# Altium schematic symbol library con-phoenix-508.SCHLIB: 96 symbols
Pins are listed as number, name and electrical type; pins without a type are passive.

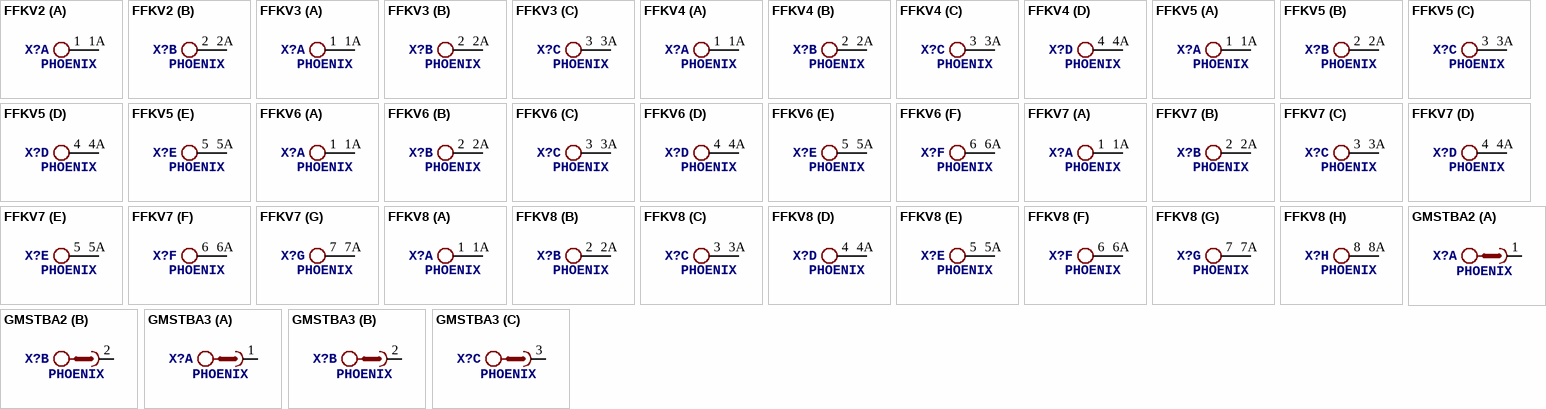
[diagram p0: symbols FFKV2 to GMSTBA3]

## FFKV2
designator X?, comment PHOENIX
footprint FFKV2
part A pins: 1, 1A 2
part B pins: 2 1, 2A 2

## FFKV3
designator X?, comment PHOENIX
footprint FFKV3
part A pins: 1, 1A 2
part B pins: 2 1, 2A 2
part C pins: 3 1, 3A 2

## FFKV4
designator X?, comment PHOENIX
footprint FFKV4
part A pins: 1, 1A 2
part B pins: 2 1, 2A 2
part C pins: 3 1, 3A 2
part D pins: 4 1, 4A 2

## FFKV5
designator X?, comment PHOENIX
footprint FFKV5
part A pins: 1, 1A 2
part B pins: 2 1, 2A 2
part C pins: 3 1, 3A 2
part D pins: 4 1, 4A 2
part E pins: 5 1, 5A 2

## FFKV6
designator X?, comment PHOENIX
footprint FFKV6
part A pins: 1, 1A 2
part B pins: 2 1, 2A 2
part C pins: 3 1, 3A 2
part D pins: 4 1, 4A 2
part E pins: 5 1, 5A 2
part F pins: 6 1, 6A 2

## FFKV7
designator X?, comment PHOENIX
footprint FFKV7
part A pins: 1, 1A 2
part B pins: 2 1, 2A 2
part C pins: 3 1, 3A 2
part D pins: 4 1, 4A 2
part E pins: 5 1, 5A 2
part F pins: 6 1, 6A 2
part G pins: 7 1, 7A 2

## FFKV8
designator X?, comment PHOENIX
footprint FFKV8
part A pins: 1, 1A 2
part B pins: 2 1, 2A 2
part C pins: 3 1, 3A 2
part D pins: 4 1, 4A 2
part E pins: 5 1, 5A 2
part F pins: 6 1, 6A 2
part G pins: 7 1, 7A 2
part H pins: 8 1, 8A 2

## GMSTBA2
designator X?, comment PHOENIX
footprint GMSTBA2
part A pins: 1
part B pins: 2 1

## GMSTBA3
designator X?, comment PHOENIX
footprint GMSTBA3
part A pins: 1
part B pins: 2 1
part C pins: 3 1

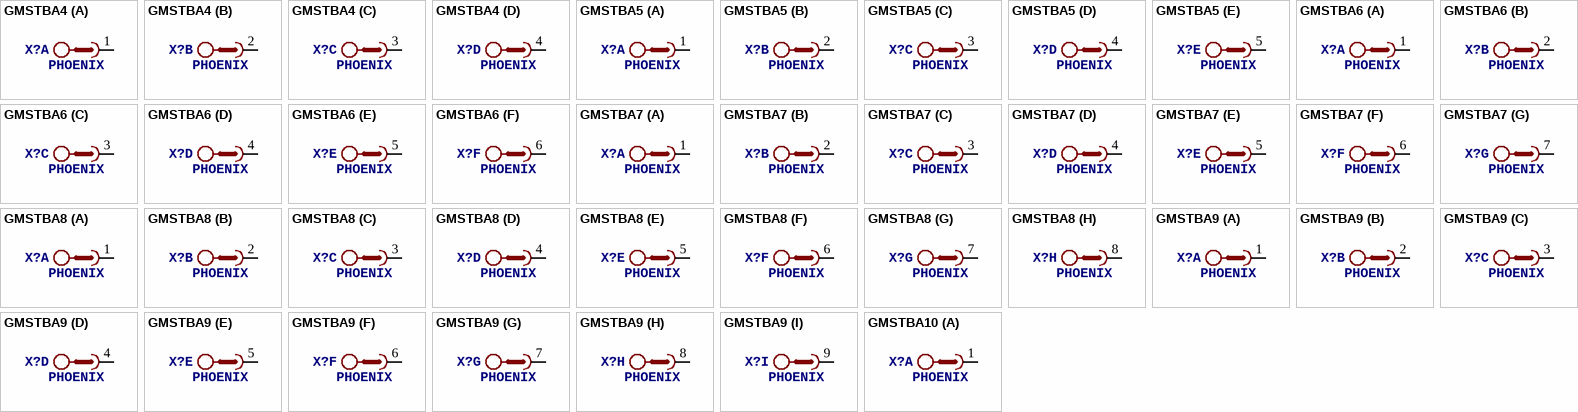
[diagram p1: symbols GMSTBA4 to GMSTBA10]

## GMSTBA4
designator X?, comment PHOENIX
footprint GMSTBA4
part A pins: 1
part B pins: 2 1
part C pins: 3 1
part D pins: 4 1

## GMSTBA5
designator X?, comment PHOENIX
footprint GMSTBA5
part A pins: 1
part B pins: 2 1
part C pins: 3 1
part D pins: 4 1
part E pins: 5 1

## GMSTBA6
designator X?, comment PHOENIX
footprint GMSTBA6
part A pins: 1
part B pins: 2 1
part C pins: 3 1
part D pins: 4 1
part E pins: 5 1
part F pins: 6 1

## GMSTBA7
designator X?, comment PHOENIX
footprint GMSTBA7
part A pins: 1
part B pins: 2 1
part C pins: 3 1
part D pins: 4 1
part E pins: 5 1
part F pins: 6 1
part G pins: 7 1

## GMSTBA8
designator X?, comment PHOENIX
footprint GMSTBA8
part A pins: 1
part B pins: 2 1
part C pins: 3 1
part D pins: 4 1
part E pins: 5 1
part F pins: 6 1
part G pins: 7 1
part H pins: 8 1

## GMSTBA9
designator X?, comment PHOENIX
footprint GMSTBA9
part A pins: 1
part B pins: 2 1
part C pins: 3 1
part D pins: 4 1
part E pins: 5 1
part F pins: 6 1
part G pins: 7 1
part H pins: 8 1
part I pins: 9 1

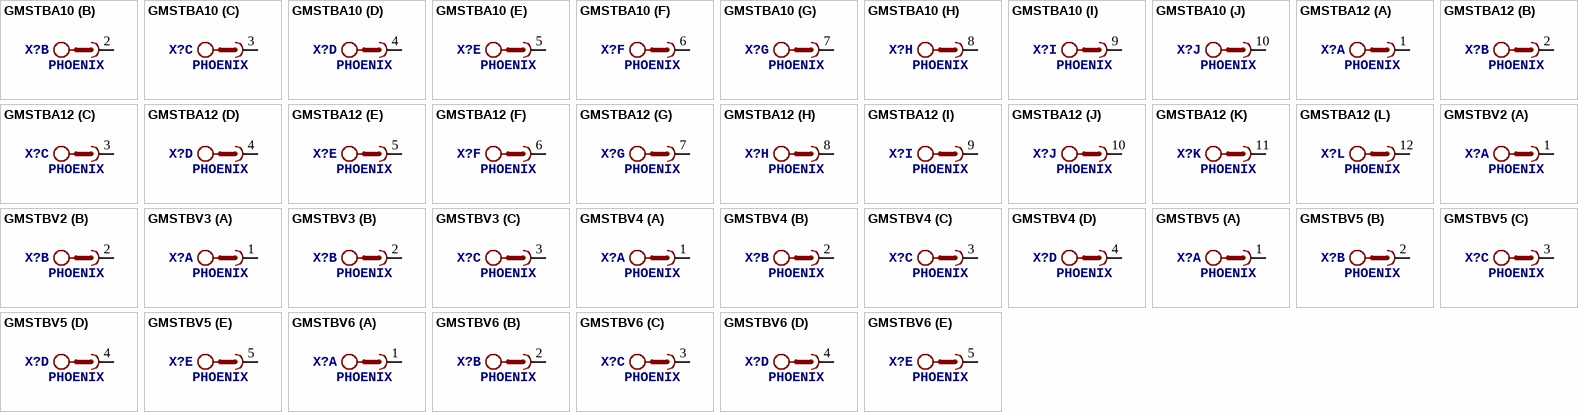
[diagram p2: symbols GMSTBA10 to GMSTBV6]

## GMSTBA10
designator X?, comment PHOENIX
footprint GMSTBA10
part A pins: 1
part B pins: 2 1
part C pins: 3 1
part D pins: 4 1
part E pins: 5 1
part F pins: 6 1
part G pins: 7 1
part H pins: 8 1
part I pins: 9 1
part J pins: 10 1

## GMSTBA12
designator X?, comment PHOENIX
footprint GMSTBA12
part A pins: 1
part B pins: 2 1
part C pins: 3 1
part D pins: 4 1
part E pins: 5 1
part F pins: 6 1
part G pins: 7 1
part H pins: 8 1
part I pins: 9 1
part J pins: 10 1
part K pins: 11 1
part L pins: 12 1

## GMSTBV2
designator X?, comment PHOENIX
footprint GMSTBV2
part A pins: 1
part B pins: 2 1

## GMSTBV3
designator X?, comment PHOENIX
footprint GMSTBV3
part A pins: 1
part B pins: 2 1
part C pins: 3 1

## GMSTBV4
designator X?, comment PHOENIX
footprint GMSTBV4
part A pins: 1
part B pins: 2 1
part C pins: 3 1
part D pins: 4 1

## GMSTBV5
designator X?, comment PHOENIX
footprint GMSTBV5
part A pins: 1
part B pins: 2 1
part C pins: 3 1
part D pins: 4 1
part E pins: 5 1

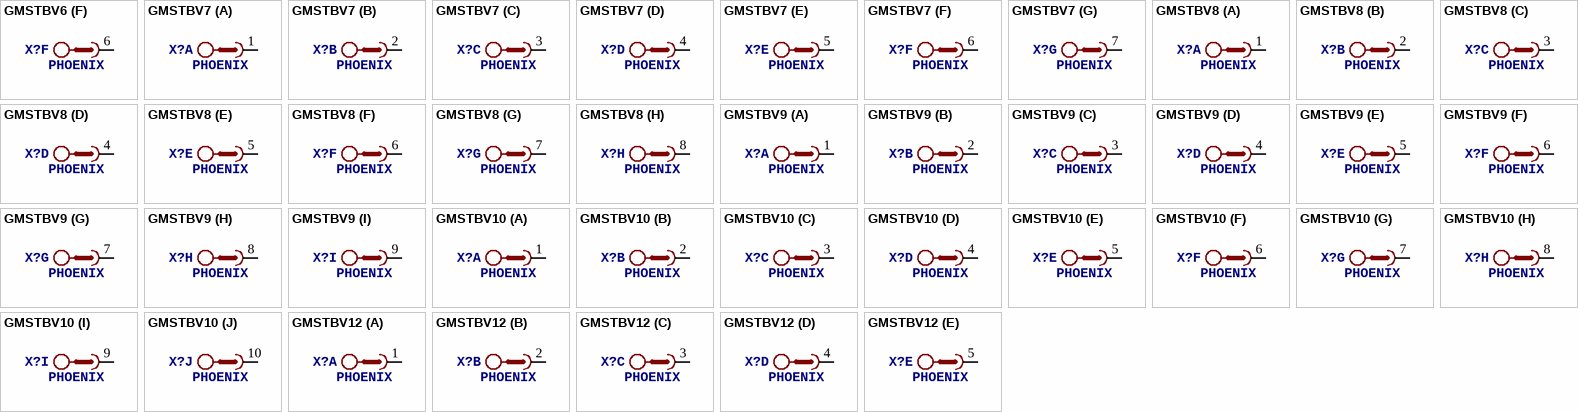
[diagram p3: symbols GMSTBV6 to GMSTBV12]

## GMSTBV6
designator X?, comment PHOENIX
footprint GMSTBV6
part A pins: 1
part B pins: 2 1
part C pins: 3 1
part D pins: 4 1
part E pins: 5 1
part F pins: 6 1

## GMSTBV7
designator X?, comment PHOENIX
footprint GMSTBV7
part A pins: 1
part B pins: 2 1
part C pins: 3 1
part D pins: 4 1
part E pins: 5 1
part F pins: 6 1
part G pins: 7 1

## GMSTBV8
designator X?, comment PHOENIX
footprint GMSTBV8
part A pins: 1
part B pins: 2 1
part C pins: 3 1
part D pins: 4 1
part E pins: 5 1
part F pins: 6 1
part G pins: 7 1
part H pins: 8 1

## GMSTBV9
designator X?, comment PHOENIX
footprint GMSTBV9
part A pins: 1
part B pins: 2 1
part C pins: 3 1
part D pins: 4 1
part E pins: 5 1
part F pins: 6 1
part G pins: 7 1
part H pins: 8 1
part I pins: 9 1

## GMSTBV10
designator X?, comment PHOENIX
footprint GMSTBV10
part A pins: 1
part B pins: 2 1
part C pins: 3 1
part D pins: 4 1
part E pins: 5 1
part F pins: 6 1
part G pins: 7 1
part H pins: 8 1
part I pins: 9 1
part J pins: 10 1

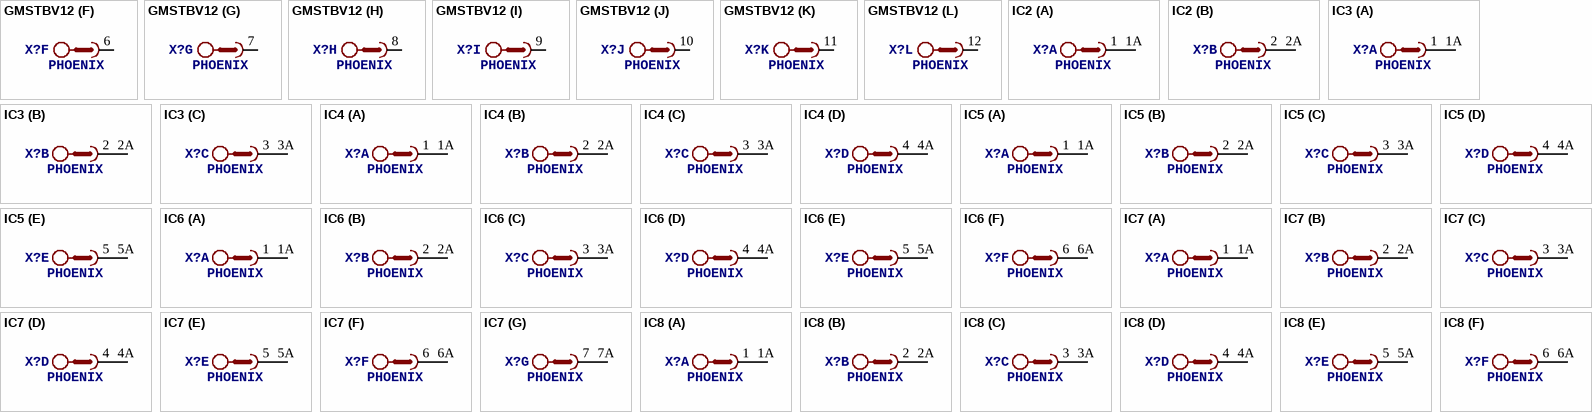
[diagram p4: symbols GMSTBV12 to IC8]

## GMSTBV12
designator X?, comment PHOENIX
footprint GMSTBV12
part A pins: 1
part B pins: 2 1
part C pins: 3 1
part D pins: 4 1
part E pins: 5 1
part F pins: 6 1
part G pins: 7 1
part H pins: 8 1
part I pins: 9 1
part J pins: 10 1
part K pins: 11 1
part L pins: 12 1

## IC2
designator X?, comment PHOENIX
footprint IC2
part A pins: 1, 1A 2
part B pins: 2 1, 2A 2

## IC3
designator X?, comment PHOENIX
footprint IC3
part A pins: 1, 1A 2
part B pins: 2 1, 2A 2
part C pins: 3 1, 3A 2

## IC4
designator X?, comment PHOENIX
footprint IC4
part A pins: 1, 1A 2
part B pins: 2 1, 2A 2
part C pins: 3 1, 3A 2
part D pins: 4 1, 4A 2

## IC5
designator X?, comment PHOENIX
footprint IC5
part A pins: 1, 1A 2
part B pins: 2 1, 2A 2
part C pins: 3 1, 3A 2
part D pins: 4 1, 4A 2
part E pins: 5 1, 5A 2

## IC6
designator X?, comment PHOENIX
footprint IC6
part A pins: 1, 1A 2
part B pins: 2 1, 2A 2
part C pins: 3 1, 3A 2
part D pins: 4 1, 4A 2
part E pins: 5 1, 5A 2
part F pins: 6 1, 6A 2

## IC7
designator X?, comment PHOENIX
footprint IC7
part A pins: 1, 1A 2
part B pins: 2 1, 2A 2
part C pins: 3 1, 3A 2
part D pins: 4 1, 4A 2
part E pins: 5 1, 5A 2
part F pins: 6 1, 6A 2
part G pins: 7 1, 7A 2

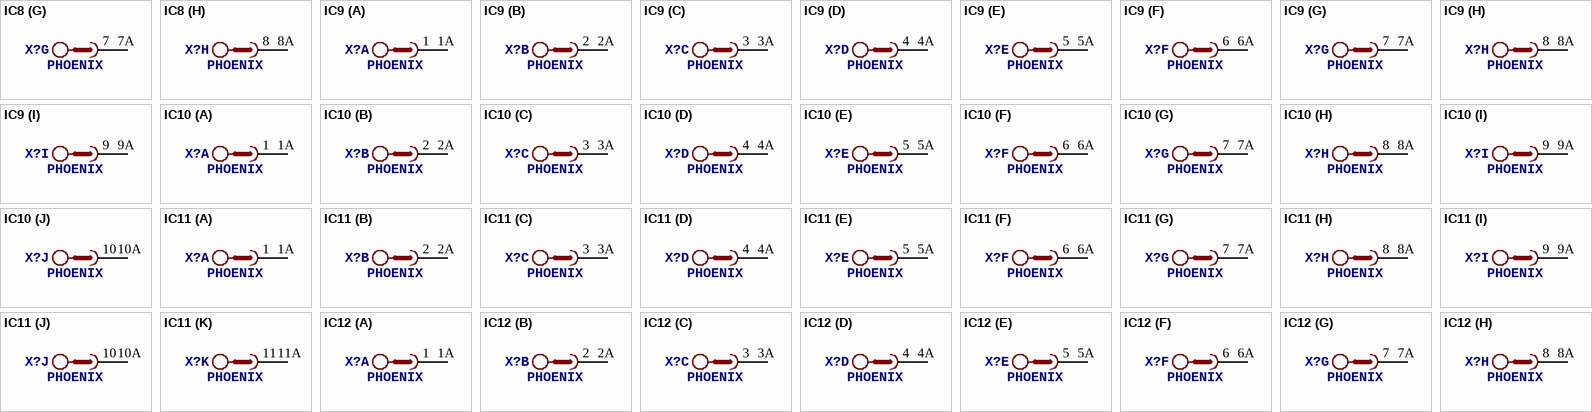
[diagram p5: symbols IC8 to IC12]

## IC8
designator X?, comment PHOENIX
footprint IC8
part A pins: 1, 1A 2
part B pins: 2 1, 2A 2
part C pins: 3 1, 3A 2
part D pins: 4 1, 4A 2
part E pins: 5 1, 5A 2
part F pins: 6 1, 6A 2
part G pins: 7 1, 7A 2
part H pins: 8 1, 8A 2

## IC9
designator X?, comment PHOENIX
footprint IC9
part A pins: 1, 1A 2
part B pins: 2 1, 2A 2
part C pins: 3 1, 3A 2
part D pins: 4 1, 4A 2
part E pins: 5 1, 5A 2
part F pins: 6 1, 6A 2
part G pins: 7 1, 7A 2
part H pins: 8 1, 8A 2
part I pins: 9 1, 9A 2

## IC10
designator X?, comment PHOENIX
footprint IC10
part A pins: 1, 1A 2
part B pins: 2 1, 2A 2
part C pins: 3 1, 3A 2
part D pins: 4 1, 4A 2
part E pins: 5 1, 5A 2
part F pins: 6 1, 6A 2
part G pins: 7 1, 7A 2
part H pins: 8 1, 8A 2
part I pins: 9 1, 9A 2
part J pins: 10 1, 10A 2

## IC11
designator X?, comment PHOENIX
footprint IC11
part A pins: 1, 1A 2
part B pins: 2 1, 2A 2
part C pins: 3 1, 3A 2
part D pins: 4 1, 4A 2
part E pins: 5 1, 5A 2
part F pins: 6 1, 6A 2
part G pins: 7 1, 7A 2
part H pins: 8 1, 8A 2
part I pins: 9 1, 9A 2
part J pins: 10 1, 10A 2
part K pins: 11 1, 11A 2

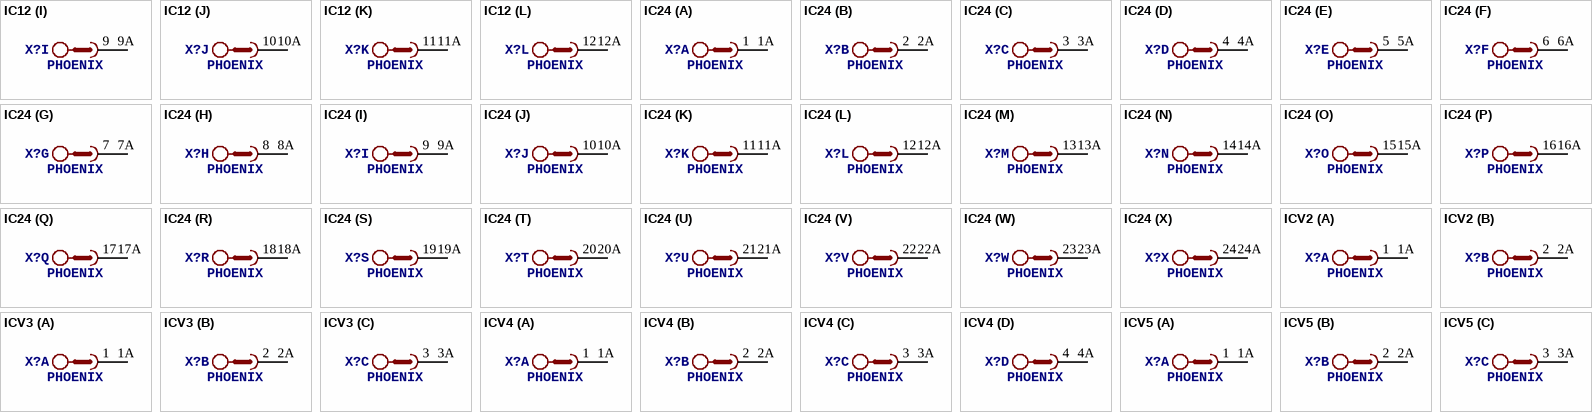
[diagram p6: symbols IC12 to ICV5]

## IC12
designator X?, comment PHOENIX
footprint IC12
part A pins: 1, 1A 2
part B pins: 2 1, 2A 2
part C pins: 3 1, 3A 2
part D pins: 4 1, 4A 2
part E pins: 5 1, 5A 2
part F pins: 6 1, 6A 2
part G pins: 7 1, 7A 2
part H pins: 8 1, 8A 2
part I pins: 9 1, 9A 2
part J pins: 10 1, 10A 2
part K pins: 11 1, 11A 2
part L pins: 12 1, 12A 2

## IC24
designator X?, comment PHOENIX
footprint IC24
part A pins: 1, 1A 2
part B pins: 2 1, 2A 2
part C pins: 3 1, 3A 2
part D pins: 4 1, 4A 2
part E pins: 5 1, 5A 2
part F pins: 6 1, 6A 2
part G pins: 7 1, 7A 2
part H pins: 8 1, 8A 2
part I pins: 9 1, 9A 2
part J pins: 10 1, 10A 2
part K pins: 11 1, 11A 2
part L pins: 12 1, 12A 2
part M pins: 13 1, 13A 2
part N pins: 14 1, 14A 2
part O pins: 15 1, 15A 2
part P pins: 16 1, 16A 2
part Q pins: 17 1, 17A 2
part R pins: 18 1, 18A 2
part S pins: 19 1, 19A 2
part T pins: 20 1, 20A 2
part U pins: 21 1, 21A 2
part V pins: 22 1, 22A 2
part W pins: 23 1, 23A 2
part X pins: 24 1, 24A 2

## ICV2
designator X?, comment PHOENIX
footprint ICV2
part A pins: 1, 1A 2
part B pins: 2 1, 2A 2

## ICV3
designator X?, comment PHOENIX
footprint ICV3
part A pins: 1, 1A 2
part B pins: 2 1, 2A 2
part C pins: 3 1, 3A 2

## ICV4
designator X?, comment PHOENIX
footprint ICV4
part A pins: 1, 1A 2
part B pins: 2 1, 2A 2
part C pins: 3 1, 3A 2
part D pins: 4 1, 4A 2

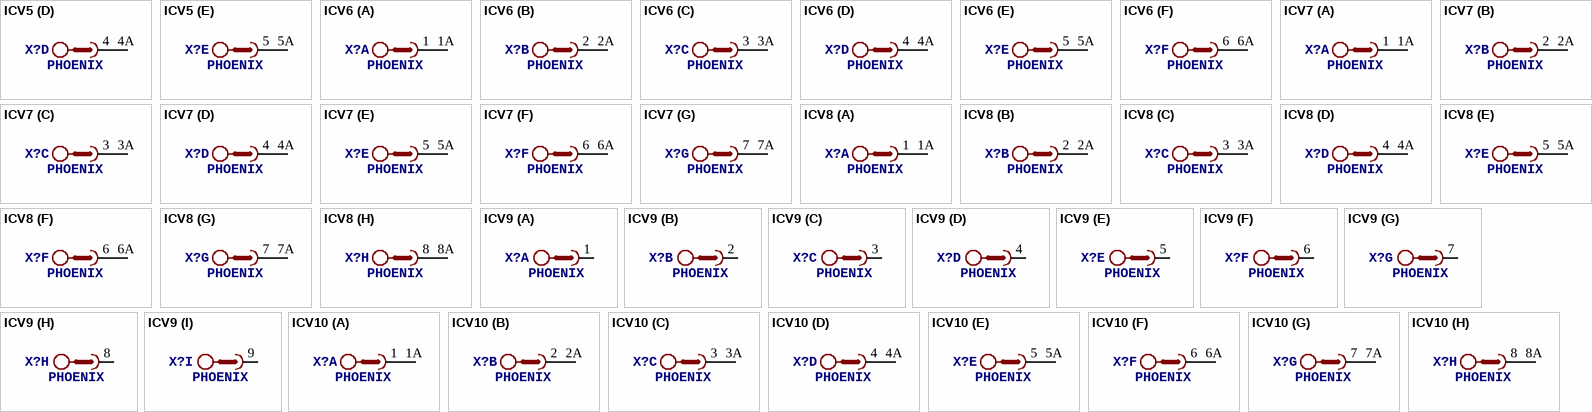
[diagram p7: symbols ICV5 to ICV10]

## ICV5
designator X?, comment PHOENIX
footprint ICV5
part A pins: 1, 1A 2
part B pins: 2 1, 2A 2
part C pins: 3 1, 3A 2
part D pins: 4 1, 4A 2
part E pins: 5 1, 5A 2

## ICV6
designator X?, comment PHOENIX
footprint ICV6
part A pins: 1, 1A 2
part B pins: 2 1, 2A 2
part C pins: 3 1, 3A 2
part D pins: 4 1, 4A 2
part E pins: 5 1, 5A 2
part F pins: 6 1, 6A 2

## ICV7
designator X?, comment PHOENIX
footprint ICV7
part A pins: 1, 1A 2
part B pins: 2 1, 2A 2
part C pins: 3 1, 3A 2
part D pins: 4 1, 4A 2
part E pins: 5 1, 5A 2
part F pins: 6 1, 6A 2
part G pins: 7 1, 7A 2

## ICV8
designator X?, comment PHOENIX
footprint ICV8
part A pins: 1, 1A 2
part B pins: 2 1, 2A 2
part C pins: 3 1, 3A 2
part D pins: 4 1, 4A 2
part E pins: 5 1, 5A 2
part F pins: 6 1, 6A 2
part G pins: 7 1, 7A 2
part H pins: 8 1, 8A 2

## ICV9
designator X?, comment PHOENIX
footprint ICV9
part A pins: 1
part B pins: 2 1
part C pins: 3 1
part D pins: 4 1
part E pins: 5 1
part F pins: 6 1
part G pins: 7 1
part H pins: 8 1
part I pins: 9 1

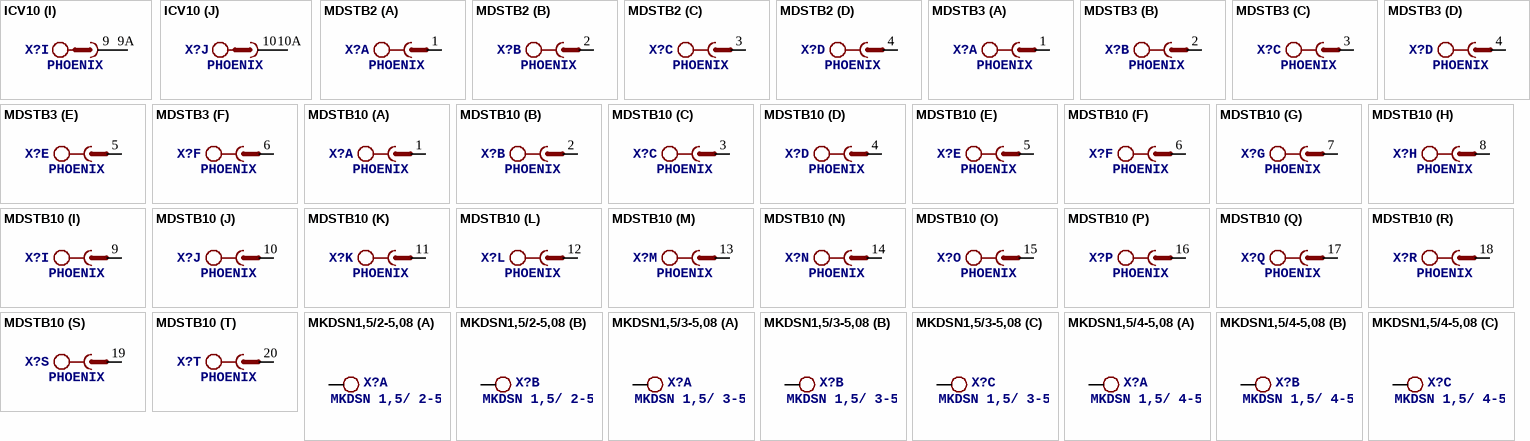
[diagram p8: symbols ICV10 to MKDSN1,5/4-5,08]

## ICV10
designator X?, comment PHOENIX
footprint ICV10
part A pins: 1, 1A 2
part B pins: 2 1, 2A 2
part C pins: 3 1, 3A 2
part D pins: 4 1, 4A 2
part E pins: 5 1, 5A 2
part F pins: 6 1, 6A 2
part G pins: 7 1, 7A 2
part H pins: 8 1, 8A 2
part I pins: 9 1, 9A 2
part J pins: 10 1, 10A 2

## MDSTB2
designator X?, comment PHOENIX
footprint MDSTB2
part A pins: 1
part B pins: 2 1
part C pins: 3 1
part D pins: 4 1

## MDSTB3
designator X?, comment PHOENIX
footprint MDSTB3
part A pins: 1
part B pins: 2 1
part C pins: 3 1
part D pins: 4 1
part E pins: 5 1
part F pins: 6 1

## MDSTB10
designator X?, comment PHOENIX
footprint MDSTB10
part A pins: 1
part B pins: 2 1
part C pins: 3 1
part D pins: 4 1
part E pins: 5 1
part F pins: 6 1
part G pins: 7 1
part H pins: 8 1
part I pins: 9 1
part J pins: 10 1
part K pins: 11 1
part L pins: 12 1
part M pins: 13 1
part N pins: 14 1
part O pins: 15 1
part P pins: 16 1
part Q pins: 17 1
part R pins: 18 1
part S pins: 19 1
part T pins: 20 1

## MKDSN1,5/2-5,08
designator X?, comment MKDSN 1,5/ 2-5,08 Printklemme   Nennstrom: 13,5 A Nennspannung: 250 V Rastermaß: 5,08 mm Polzahl: 2 Anschlussart: Schraubanschluss Montage: Löten Anschlussrichtung Leiter/Platine: 0 ° Artikelnummer: 1729128 Source: http://eshop.phoenixcontact.com .. 1729128.pdf
footprint MKDSN1,5/2-5,08
part A pins: 1 KL
part B pins: 2 KL

## MKDSN1,5/3-5,08
designator X?, comment MKDSN 1,5/ 3-5,08 Printklemme   Nennstrom: 13,5 A Nennspannung: 250 V Rastermaß: 5,08 mm Polzahl: 3 Anschlussart: Schraubanschluss Montage: Löten Anschlussrichtung Leiter/Platine: 0 ° Artikelnummer: 1729131 Source: http://eshop.phoenixcontact.com .. 1729131.pdf
footprint MKDSN1,5/3-5,08
part A pins: 1 KL
part B pins: 2 KL
part C pins: 3 KL

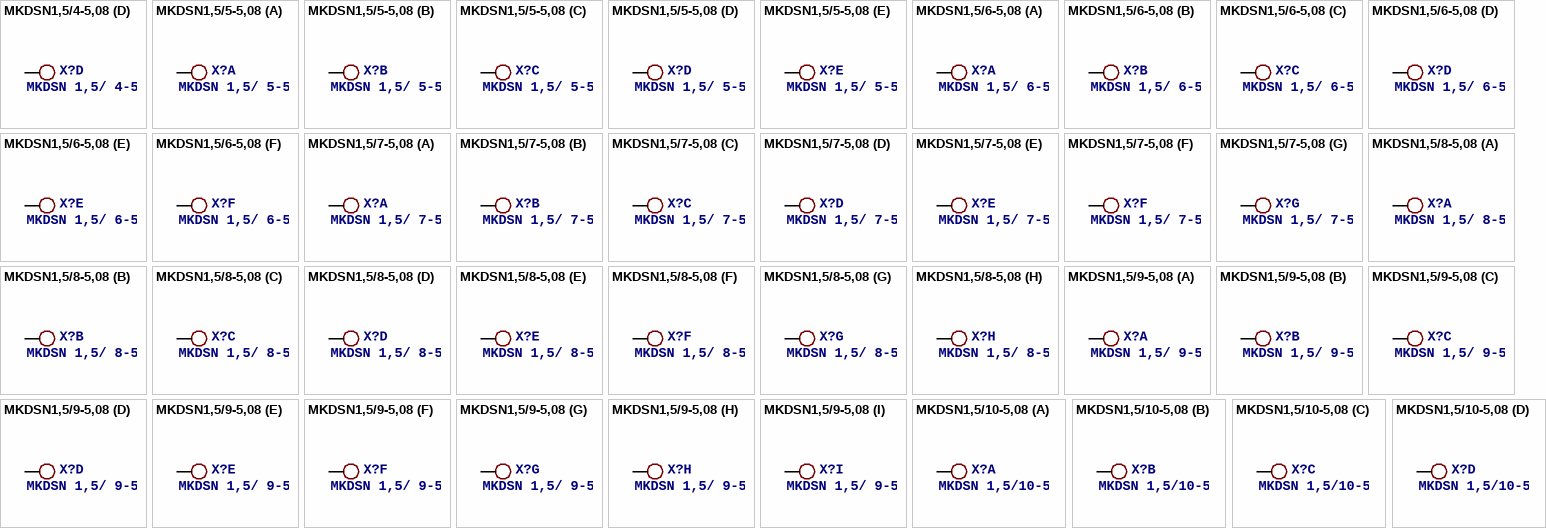
[diagram p9: symbols MKDSN1,5/4-5,08 to MKDSN1,5/10-5,08]

## MKDSN1,5/4-5,08
designator X?, comment MKDSN 1,5/ 4-5,08 Printklemme   Nennstrom: 13,5 A Nennspannung: 250 V Rastermaß: 5,08 mm Polzahl: 4 Anschlussart: Schraubanschluss Montage: Löten Anschlussrichtung Leiter/Platine: 0 ° Artikelnummer: 1729144 Source: http://eshop.phoenixcontact.com .. 1729144.pdf
footprint MKDSN1,5/4-5,08
part A pins: 1 KL
part B pins: 2 KL
part C pins: 3 KL
part D pins: 4 KL

## MKDSN1,5/5-5,08
designator X?, comment MKDSN 1,5/ 5-5,08 Printklemme   Nennstrom: 13,5 A Nennspannung: 250 V Rastermaß: 5,08 mm Polzahl: 5 Anschlussart: Schraubanschluss Montage: Löten Anschlussrichtung Leiter/Platine: 0 ° Artikelnummer: 1729157 Source: http://eshop.phoenixcontact.com .. 1729157.pdf
footprint MKDSN1,5/5-5,08
part A pins: 1 KL
part B pins: 2 KL
part C pins: 3 KL
part D pins: 4 KL
part E pins: 5 KL

## MKDSN1,5/6-5,08
designator X?, comment MKDSN 1,5/ 6-5,08 Printklemme   Nennstrom: 13,5 A Nennspannung: 250 V Rastermaß: 5,08 mm Polzahl: 6 Anschlussart: Schraubanschluss Montage: Löten Anschlussrichtung Leiter/Platine: 0 ° Artikelnummer: 1729160 Source: http://eshop.phoenixcontact.com .. 1729160.pdf
footprint MKDSN1,5/6-5,08
part A pins: 1 KL
part B pins: 2 KL
part C pins: 3 KL
part D pins: 4 KL
part E pins: 5 KL
part F pins: 6 KL

## MKDSN1,5/7-5,08
designator X?, comment MKDSN 1,5/ 7-5,08 Printklemme   Nennstrom: 13,5 A Nennspannung: 250 V Rastermaß: 5,08 mm Polzahl: 7 Anschlussart: Schraubanschluss Montage: Löten Anschlussrichtung Leiter/Platine: 0 ° Artikelnummer: 1729173 Source: http://eshop.phoenixcontact.com .. 1729173.pdf
footprint MKDSN1,5/7-5,08
part A pins: 1 KL
part B pins: 2 KL
part C pins: 3 KL
part D pins: 4 KL
part E pins: 5 KL
part F pins: 6 KL
part G pins: 7 KL

## MKDSN1,5/8-5,08
designator X?, comment MKDSN 1,5/ 8-5,08 Printklemme   Nennstrom: 13,5 A Nennspannung: 250 V Rastermaß: 5,08 mm Polzahl: 8 Anschlussart: Schraubanschluss Montage: Löten Anschlussrichtung Leiter/Platine: 0 ° Artikelnummer: 1729186 Source: http://eshop.phoenixcontact.com .. 1729186.pdf
footprint MKDSN1,5/8-5,08
part A pins: 1 KL
part B pins: 2 KL
part C pins: 3 KL
part D pins: 4 KL
part E pins: 5 KL
part F pins: 6 KL
part G pins: 7 KL
part H pins: 8 KL

## MKDSN1,5/9-5,08
designator X?, comment MKDSN 1,5/ 9-5,08 Printklemme   Nennstrom: 13,5 A Nennspannung: 250 V Rastermaß: 5,08 mm Polzahl: 9 Anschlussart: Schraubanschluss Montage: Löten Anschlussrichtung Leiter/Platine: 0 ° Artikelnummer: 1729199 Source: http://eshop.phoenixcontact.com .. 1729199.pdf
footprint MKDSN1,5/9-5,08
part A pins: 1 KL
part B pins: 2 KL
part C pins: 3 KL
part D pins: 4 KL
part E pins: 5 KL
part F pins: 6 KL
part G pins: 7 KL
part H pins: 8 KL
part I pins: 9 KL

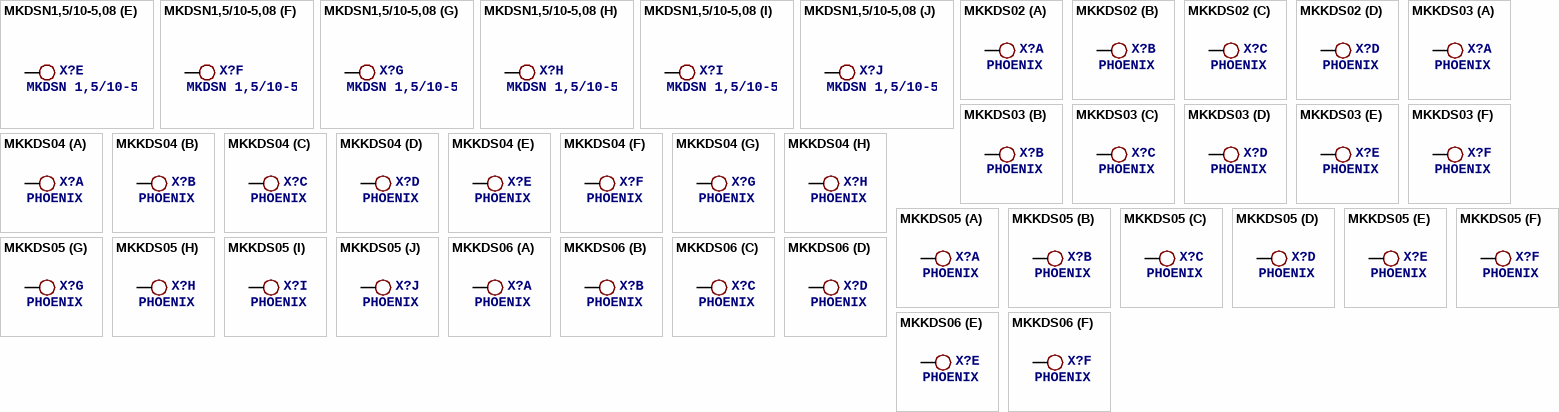
[diagram p10: symbols MKDSN1,5/10-5,08 to MKKDS06]

## MKDSN1,5/10-5,08
designator X?, comment MKDSN 1,5/10-5,08 Printklemme   Nennstrom: 13,5 A Nennspannung: 250 V Rastermaß: 5,08 mm Polzahl: 10 Anschlussart: Schraubanschluss Montage: Löten Anschlussrichtung Leiter/Platine: 0 ° Artikelnummer: 1729209 Source: http://eshop.phoenixcontact.com .. 1729209.pdf
footprint MKDSN1,5/10-5,08
part A pins: 1 KL
part B pins: 2 KL
part C pins: 3 KL
part D pins: 4 KL
part E pins: 5 KL
part F pins: 6 KL
part G pins: 7 KL
part H pins: 8 KL
part I pins: 9 KL
part J pins: 10 KL

## MKKDS02
designator X?, comment PHOENIX
footprint MKKDS02
part A pins: 1 KL
part B pins: 2 KL
part C pins: 3 KL
part D pins: 4 KL

## MKKDS03
designator X?, comment PHOENIX
footprint MKKDS03
part A pins: 1 KL
part B pins: 2 KL
part C pins: 3 KL
part D pins: 4 KL
part E pins: 5 KL
part F pins: 6 KL

## MKKDS04
designator X?, comment PHOENIX
footprint MKKDS04
part A pins: 1 KL
part B pins: 2 KL
part C pins: 3 KL
part D pins: 4 KL
part E pins: 5 KL
part F pins: 6 KL
part G pins: 7 KL
part H pins: 8 KL

## MKKDS05
designator X?, comment PHOENIX
footprint MKKDS05
part A pins: 1 KL
part B pins: 2 KL
part C pins: 3 KL
part D pins: 4 KL
part E pins: 5 KL
part F pins: 6 KL
part G pins: 7 KL
part H pins: 8 KL
part I pins: 9 KL
part J pins: 10 KL

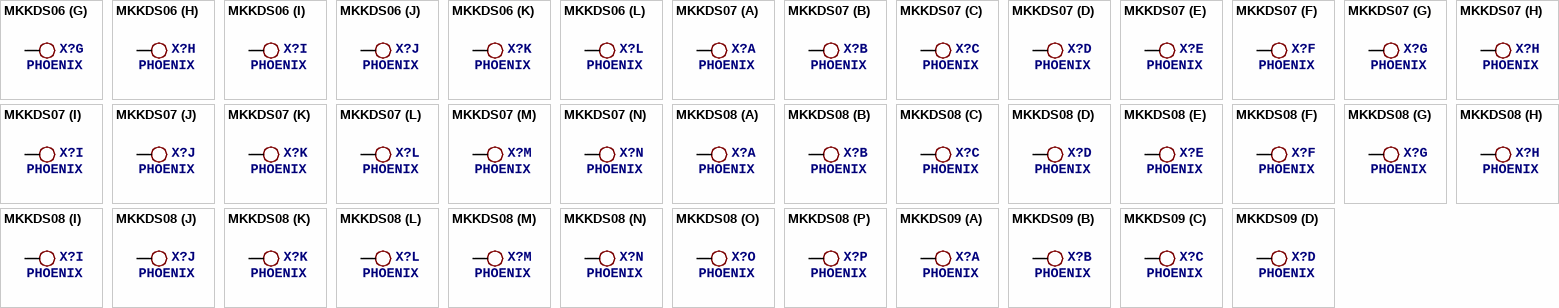
[diagram p11: symbols MKKDS06 to MKKDS09]

## MKKDS06
designator X?, comment PHOENIX
footprint MKKDS06
part A pins: 1 KL
part B pins: 2 KL
part C pins: 3 KL
part D pins: 4 KL
part E pins: 5 KL
part F pins: 6 KL
part G pins: 7 KL
part H pins: 8 KL
part I pins: 9 KL
part J pins: 10 KL
part K pins: 11 KL
part L pins: 12 KL

## MKKDS07
designator X?, comment PHOENIX
footprint MKKDS07
part A pins: 1 KL
part B pins: 2 KL
part C pins: 3 KL
part D pins: 4 KL
part E pins: 5 KL
part F pins: 6 KL
part G pins: 7 KL
part H pins: 8 KL
part I pins: 9 KL
part J pins: 10 KL
part K pins: 11 KL
part L pins: 12 KL
part M pins: 13 KL
part N pins: 14 KL

## MKKDS08
designator X?, comment PHOENIX
footprint MKKDS08
part A pins: 1 KL
part B pins: 2 KL
part C pins: 3 KL
part D pins: 4 KL
part E pins: 5 KL
part F pins: 6 KL
part G pins: 7 KL
part H pins: 8 KL
part I pins: 9 KL
part J pins: 10 KL
part K pins: 11 KL
part L pins: 12 KL
part M pins: 13 KL
part N pins: 14 KL
part O pins: 15 KL
part P pins: 16 KL

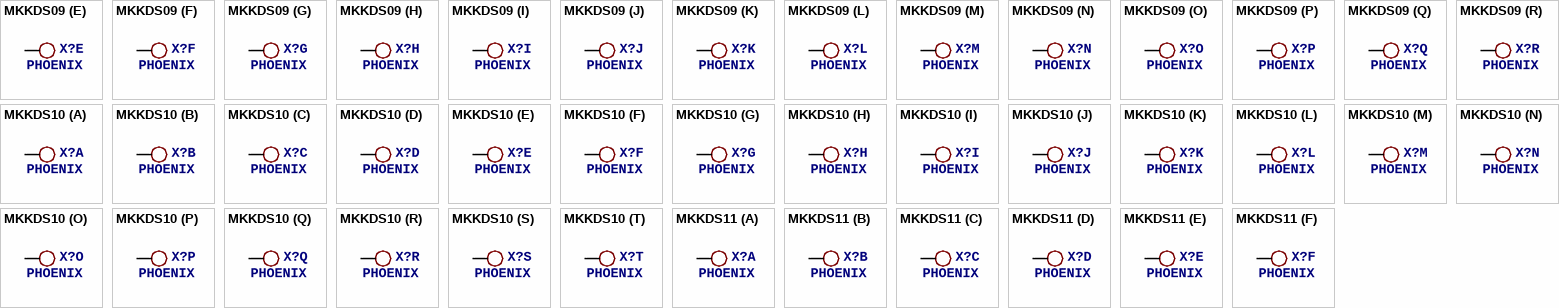
[diagram p12: symbols MKKDS09 to MKKDS11]

## MKKDS09
designator X?, comment PHOENIX
footprint MKKDS09
part A pins: 1 KL
part B pins: 2 KL
part C pins: 3 KL
part D pins: 4 KL
part E pins: 5 KL
part F pins: 6 KL
part G pins: 7 KL
part H pins: 8 KL
part I pins: 9 KL
part J pins: 10 KL
part K pins: 11 KL
part L pins: 12 KL
part M pins: 13 KL
part N pins: 14 KL
part O pins: 15 KL
part P pins: 16 KL
part Q pins: 17 KL
part R pins: 18 KL

## MKKDS10
designator X?, comment PHOENIX
footprint MKKDS10
part A pins: 1 KL
part B pins: 2 KL
part C pins: 3 KL
part D pins: 4 KL
part E pins: 5 KL
part F pins: 6 KL
part G pins: 7 KL
part H pins: 8 KL
part I pins: 9 KL
part J pins: 10 KL
part K pins: 11 KL
part L pins: 12 KL
part M pins: 13 KL
part N pins: 14 KL
part O pins: 15 KL
part P pins: 16 KL
part Q pins: 17 KL
part R pins: 18 KL
part S pins: 19 KL
part T pins: 20 KL

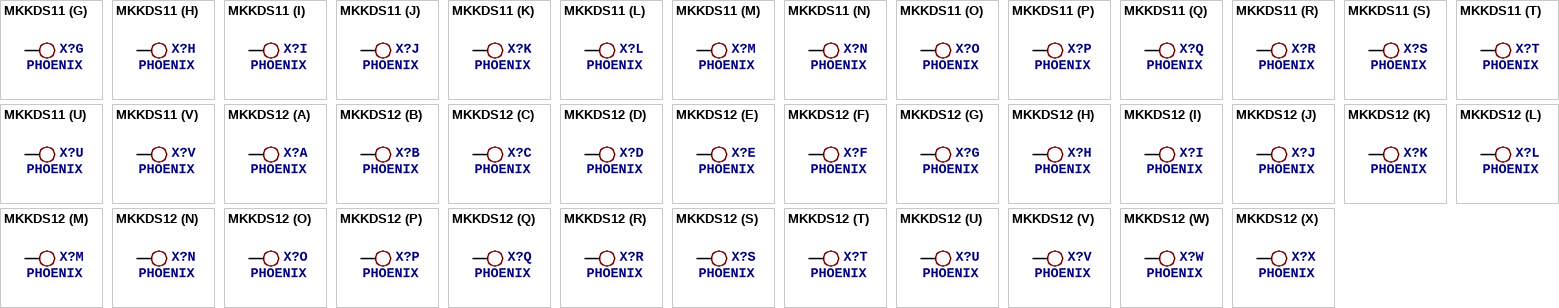
[diagram p13: symbols MKKDS11 to MKKDS12]

## MKKDS11
designator X?, comment PHOENIX
footprint MKKDS11
part A pins: 1 KL
part B pins: 2 KL
part C pins: 3 KL
part D pins: 4 KL
part E pins: 5 KL
part F pins: 6 KL
part G pins: 7 KL
part H pins: 8 KL
part I pins: 9 KL
part J pins: 10 KL
part K pins: 11 KL
part L pins: 12 KL
part M pins: 13 KL
part N pins: 14 KL
part O pins: 15 KL
part P pins: 16 KL
part Q pins: 17 KL
part R pins: 18 KL
part S pins: 19 KL
part T pins: 20 KL
part U pins: 21 KL
part V pins: 22 KL

## MKKDS12
designator X?, comment PHOENIX
footprint MKKDS12
part A pins: 1 KL
part B pins: 2 KL
part C pins: 3 KL
part D pins: 4 KL
part E pins: 5 KL
part F pins: 6 KL
part G pins: 7 KL
part H pins: 8 KL
part I pins: 9 KL
part J pins: 10 KL
part K pins: 11 KL
part L pins: 12 KL
part M pins: 13 KL
part N pins: 14 KL
part O pins: 15 KL
part P pins: 16 KL
part Q pins: 17 KL
part R pins: 18 KL
part S pins: 19 KL
part T pins: 20 KL
part U pins: 21 KL
part V pins: 22 KL
part W pins: 23 KL
part X pins: 24 KL

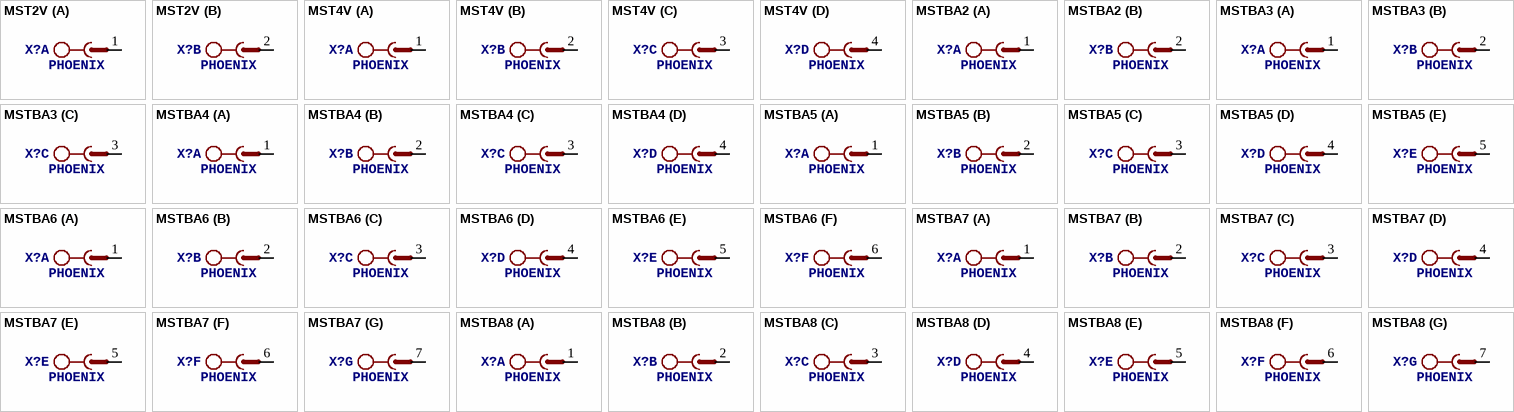
[diagram p14: symbols MST2V to MSTBA8]

## MST2V
designator X?, comment PHOENIX
footprint MSTBV2
part A pins: 1
part B pins: 2 1

## MST4V
designator X?, comment PHOENIX
footprint MSTBV4
part A pins: 1
part B pins: 2 1
part C pins: 3 1
part D pins: 4 1

## MSTBA2
designator X?, comment PHOENIX
footprint MSTBA2
part A pins: 1
part B pins: 2 1

## MSTBA3
designator X?, comment PHOENIX
footprint MSTBA3
part A pins: 1
part B pins: 2 1
part C pins: 3 1

## MSTBA4
designator X?, comment PHOENIX
footprint MSTBA4
part A pins: 1
part B pins: 2 1
part C pins: 3 1
part D pins: 4 1

## MSTBA5
designator X?, comment PHOENIX
footprint MSTBA5
part A pins: 1
part B pins: 2 1
part C pins: 3 1
part D pins: 4 1
part E pins: 5 1

## MSTBA6
designator X?, comment PHOENIX
footprint MSTBA6
part A pins: 1
part B pins: 2 1
part C pins: 3 1
part D pins: 4 1
part E pins: 5 1
part F pins: 6 1

## MSTBA7
designator X?, comment PHOENIX
footprint MSTBA7
part A pins: 1
part B pins: 2 1
part C pins: 3 1
part D pins: 4 1
part E pins: 5 1
part F pins: 6 1
part G pins: 7 1

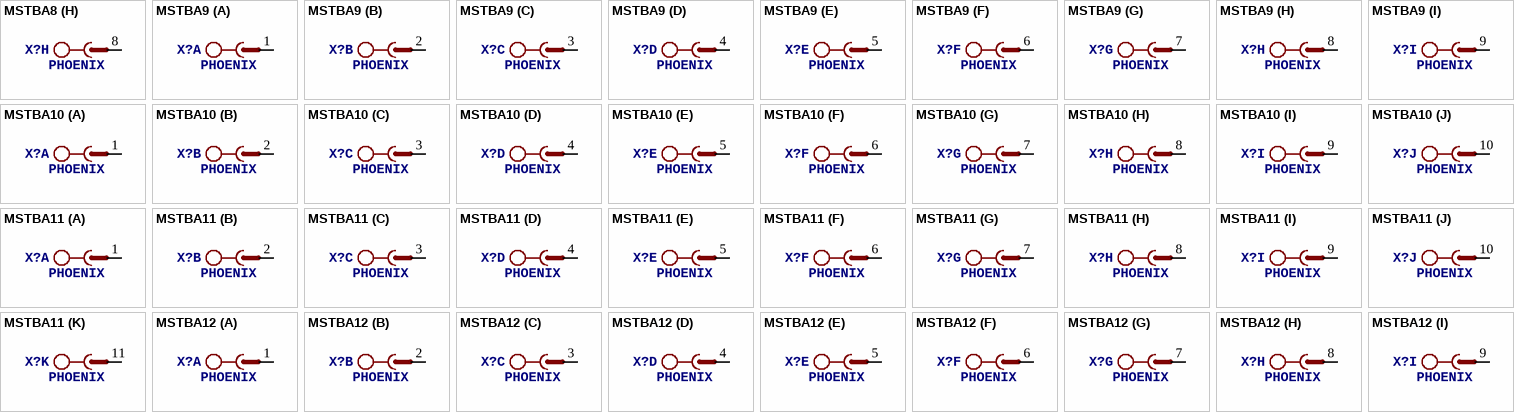
[diagram p15: symbols MSTBA8 to MSTBA12]

## MSTBA8
designator X?, comment PHOENIX
footprint MSTBA8
part A pins: 1
part B pins: 2 1
part C pins: 3 1
part D pins: 4 1
part E pins: 5 1
part F pins: 6 1
part G pins: 7 1
part H pins: 8 1

## MSTBA9
designator X?, comment PHOENIX
footprint MSTBA9
part A pins: 1
part B pins: 2 1
part C pins: 3 1
part D pins: 4 1
part E pins: 5 1
part F pins: 6 1
part G pins: 7 1
part H pins: 8 1
part I pins: 9 1

## MSTBA10
designator X?, comment PHOENIX
footprint MSTBA10
part A pins: 1
part B pins: 2 1
part C pins: 3 1
part D pins: 4 1
part E pins: 5 1
part F pins: 6 1
part G pins: 7 1
part H pins: 8 1
part I pins: 9 1
part J pins: 10 1

## MSTBA11
designator X?, comment PHOENIX
footprint MSTBA11
part A pins: 1
part B pins: 2 1
part C pins: 3 1
part D pins: 4 1
part E pins: 5 1
part F pins: 6 1
part G pins: 7 1
part H pins: 8 1
part I pins: 9 1
part J pins: 10 1
part K pins: 11 1

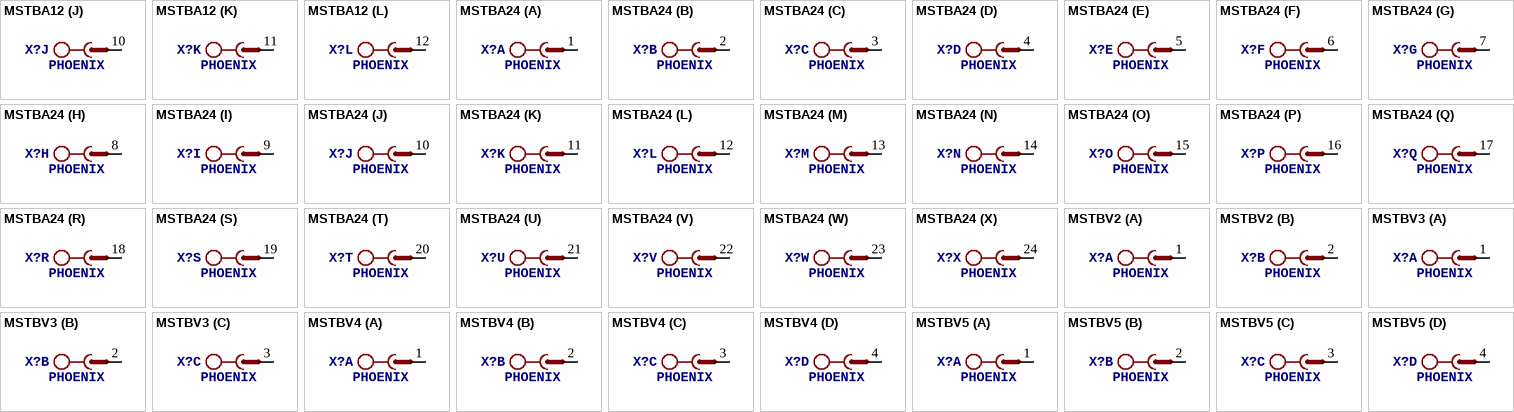
[diagram p16: symbols MSTBA12 to MSTBV5]

## MSTBA12
designator X?, comment PHOENIX
footprint MSTBA12
part A pins: 1
part B pins: 2 1
part C pins: 3 1
part D pins: 4 1
part E pins: 5 1
part F pins: 6 1
part G pins: 7 1
part H pins: 8 1
part I pins: 9 1
part J pins: 10 1
part K pins: 11 1
part L pins: 12 1

## MSTBA24
designator X?, comment PHOENIX
footprint MSTBA24
part A pins: 1
part B pins: 2 1
part C pins: 3 1
part D pins: 4 1
part E pins: 5 1
part F pins: 6 1
part G pins: 7 1
part H pins: 8 1
part I pins: 9 1
part J pins: 10 1
part K pins: 11 1
part L pins: 12 1
part M pins: 13 1
part N pins: 14 1
part O pins: 15 1
part P pins: 16 1
part Q pins: 17 1
part R pins: 18 1
part S pins: 19 1
part T pins: 20 1
part U pins: 21 1
part V pins: 22 1
part W pins: 23 1
part X pins: 24 1

## MSTBV2
designator X?, comment PHOENIX
footprint MSTBV2
part A pins: 1
part B pins: 2 1

## MSTBV3
designator X?, comment PHOENIX
footprint MSTBV3
part A pins: 1
part B pins: 2 1
part C pins: 3 1

## MSTBV4
designator X?, comment PHOENIX
footprint MSTBV4
part A pins: 1
part B pins: 2 1
part C pins: 3 1
part D pins: 4 1

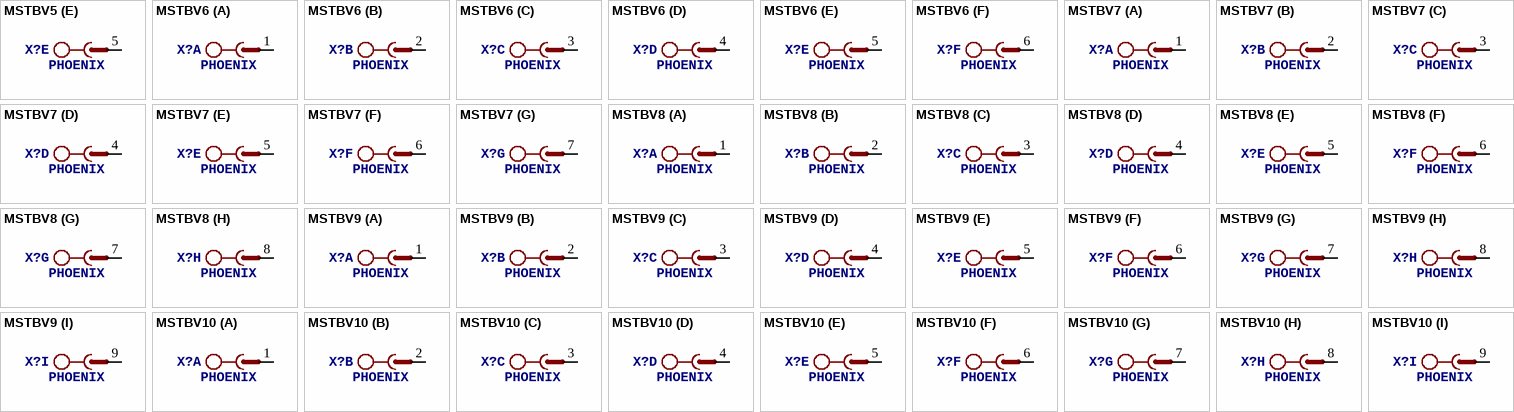
[diagram p17: symbols MSTBV5 to MSTBV10]

## MSTBV5
designator X?, comment PHOENIX
footprint MSTBV5
part A pins: 1
part B pins: 2 1
part C pins: 3 1
part D pins: 4 1
part E pins: 5 1

## MSTBV6
designator X?, comment PHOENIX
footprint MSTBV6
part A pins: 1
part B pins: 2 1
part C pins: 3 1
part D pins: 4 1
part E pins: 5 1
part F pins: 6 1

## MSTBV7
designator X?, comment PHOENIX
footprint MSTBV7
part A pins: 1
part B pins: 2 1
part C pins: 3 1
part D pins: 4 1
part E pins: 5 1
part F pins: 6 1
part G pins: 7 1

## MSTBV8
designator X?, comment PHOENIX
footprint MSTBV8
part A pins: 1
part B pins: 2 1
part C pins: 3 1
part D pins: 4 1
part E pins: 5 1
part F pins: 6 1
part G pins: 7 1
part H pins: 8 1

## MSTBV9
designator X?, comment PHOENIX
footprint MSTBV9
part A pins: 1
part B pins: 2 1
part C pins: 3 1
part D pins: 4 1
part E pins: 5 1
part F pins: 6 1
part G pins: 7 1
part H pins: 8 1
part I pins: 9 1

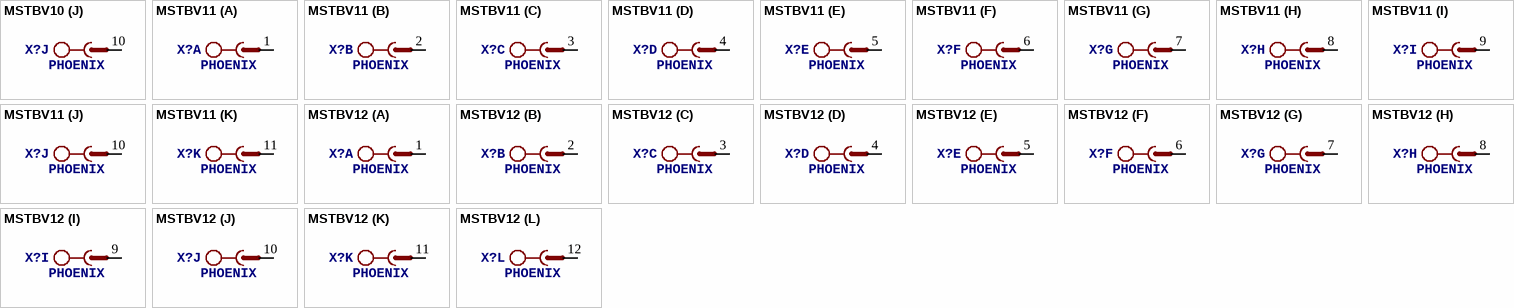
[diagram p18: symbols MSTBV10 to MSTBV12]

## MSTBV10
designator X?, comment PHOENIX
footprint MSTBV10
part A pins: 1
part B pins: 2 1
part C pins: 3 1
part D pins: 4 1
part E pins: 5 1
part F pins: 6 1
part G pins: 7 1
part H pins: 8 1
part I pins: 9 1
part J pins: 10 1

## MSTBV11
designator X?, comment PHOENIX
footprint MSTBV11
part A pins: 1
part B pins: 2 1
part C pins: 3 1
part D pins: 4 1
part E pins: 5 1
part F pins: 6 1
part G pins: 7 1
part H pins: 8 1
part I pins: 9 1
part J pins: 10 1
part K pins: 11 1

## MSTBV12
designator X?, comment PHOENIX
footprint MSTBV12
part A pins: 1
part B pins: 2 1
part C pins: 3 1
part D pins: 4 1
part E pins: 5 1
part F pins: 6 1
part G pins: 7 1
part H pins: 8 1
part I pins: 9 1
part J pins: 10 1
part K pins: 11 1
part L pins: 12 1